# EAGLE library part M25PE16 (library mbed-ics)
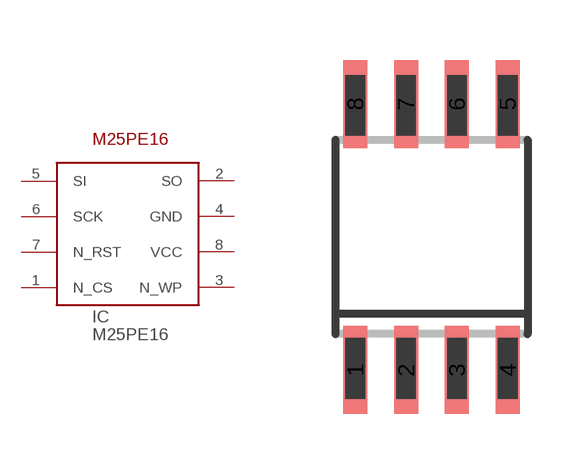
[diagram p12: symbol with the pads of SO-08M; footprint SO-08M]

Designator prefix IC

## M25PE16  [SO-08M]
1  N_CS  in
2  SO  out
3  N_WP  in
4  GND  pwr
5  SI  in
6  SCK  in
7  N_RST  in
8  VCC  pwr

## Footprint SO-08M (pad centres in mm)
Small Outline Medium Plastic Gull Wing 207-mil body, package type SM
smd 0.6 x 2.2: 1 -1.905,-3.33; 2 -0.635,-3.33; 3 0.635,-3.33; 4 1.905,-3.33; 5 1.905,3.33; 6 0.635,3.33; 7 -0.635,3.33; 8 -1.905,3.33